# Altium schematic symbol library Schlib2.SchLib: 1 symbol
Pins are listed as number, name and electrical type; pins without a type are passive.

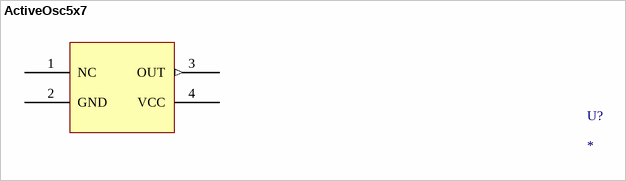
[diagram p0: symbol ActiveOsc5x7]

## ActiveOsc5x7
designator U?
footprint ACT_OSC (Active_oscillator)
pins: 1 NC (hiz), 2 GND (power), 3 OUT (out), 4 VCC (power)